# Altium integrated library ST Video Colour Encoder Circuit.IntLib: 2 symbols
Pins are listed as number, name and electrical type; pins without a type are passive.

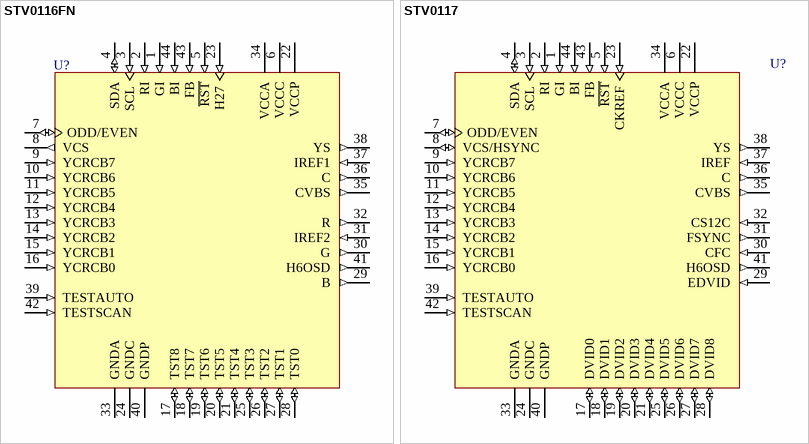
[diagram p0: symbols STV0116FN to STV0117]

## STV0116FN
designator U?
PAL/NTSC Digital Encoder; Note: Pin numbers 17-21 and 25-28 are not to be connected.; Published: 24-Aug-2001; LatestRevisionDate: 6-Jun-2005; LatestRevisionNote: Stylized 3D Model Added.; DatasheetDocument: Oct-1996; PackageDocument: Feb-1997; PackageReference: PLCC44A; Publisher: Altium Limited; Code_IPC: PLCC-44; ComponentLink1Description: Manufacturer Link; ComponentLink1URL: http://www.st.com/
footprint PLCC44A (Leaded Chip Carrier; 44 Leads; Body 16.5 x 16.5 mm)
3D model STV0116-PLCC44 (Leaded Chip Carrier; 44 Leads; Body 16.5 x 16.5 mm)
pins: 1 GI (in), 2 RI (in), 3 SCL (in), 4 SDA (io), 5 ~{RST} (in), 6 VCCC (power), 7 ODD/EVEN (io), 8 VCS (out), 9 YCRCB7 (in), 10 YCRCB6 (in), 11 YCRCB5 (in), 12 YCRCB4 (in), 13 YCRCB3 (in), 14 YCRCB2 (in), 15 YCRCB1 (in), 16 YCRCB0 (in), 17 TST8 (io), 18 TST7 (io), 19 TST6 (io), 20 TST5 (io), 21 TST4 (io), 22 VCCP (power), 23 H27 (in), 24 GNDC (power), 25 TST3 (io), 26 TST2 (io), 27 TST1 (io), 28 TST0 (io), 29 B (out), 30 G (out), 31 IREF2 (in), 32 R (out), 33 GNDA (power), 34 VCCA (power), 35 CVBS (out), 36 C (out), 37 IREF1 (in), 38 YS (out), 39 TESTAUTO (in), 40 GNDP (power), 41 H6OSD (out), 42 TESTSCAN (in), 43 FB (in), 44 BI (in)

## STV0117
designator U?
PAL/NTSC Digital Encoder; Published: 24-Aug-2001; LatestRevisionDate: 6-Jun-2005; LatestRevisionNote: Stylized 3D Model Added.; DatasheetDocument: May-1996; PackageDocument: Feb-1997; PackageReference: PLCC44A; Publisher: Altium Limited; Code_IPC: PLCC-44; ComponentLink1Description: Manufacturer Link; ComponentLink1URL: http://www.st.com/
footprint PLCC44A (Leaded Chip Carrier; 44 Leads; Body 16.5 x 16.5 mm)
3D model STV0117-PLCC44 (Leaded Chip Carrier; 44 Leads; Body 16.5 x 16.5 mm)
pins: 1 GI (in), 2 RI (in), 3 SCL (in), 4 SDA (io), 5 ~{RST} (in), 6 VCCC (power), 7 ODD/EVEN (io), 8 VCS/HSYNC (io), 9 YCRCB7 (in), 10 YCRCB6 (in), 11 YCRCB5 (in), 12 YCRCB4 (in), 13 YCRCB3 (in), 14 YCRCB2 (in), 15 YCRCB1 (in), 16 YCRCB0 (in), 17 DVID0 (io), 18 DVID1 (io), 19 DVID2 (io), 20 DVID3 (io), 21 DVID4 (io), 22 VCCP (power), 23 CKREF (in), 24 GNDC (power), 25 DVID5 (io), 26 DVID6 (io), 27 DVID7 (io), 28 DVID8 (io), 29 EDVID (in), 30 CFC (in), 31 FSYNC (out), 32 CS12C (in), 33 GNDA (power), 34 VCCA (power), 35 CVBS (out), 36 C (out), 37 IREF (in), 38 YS (out), 39 TESTAUTO (in), 40 GNDP (power), 41 H6OSD (out), 42 TESTSCAN (in), 43 FB (in), 44 BI (in)